# Altium footprint library MLACHT_Z.PCBLIB: 150 footprints (part 7 of 10)
Each footprint in its own frame and in the unit in brackets; x right, y up, seen from the top. Pads: shape width x height; smd on the part's side, far side on the other; paste and mask are expansions set on the pad; w line width, h text height; cw(c..) or ccw(c..) is an arc to the next point about the centre after c.
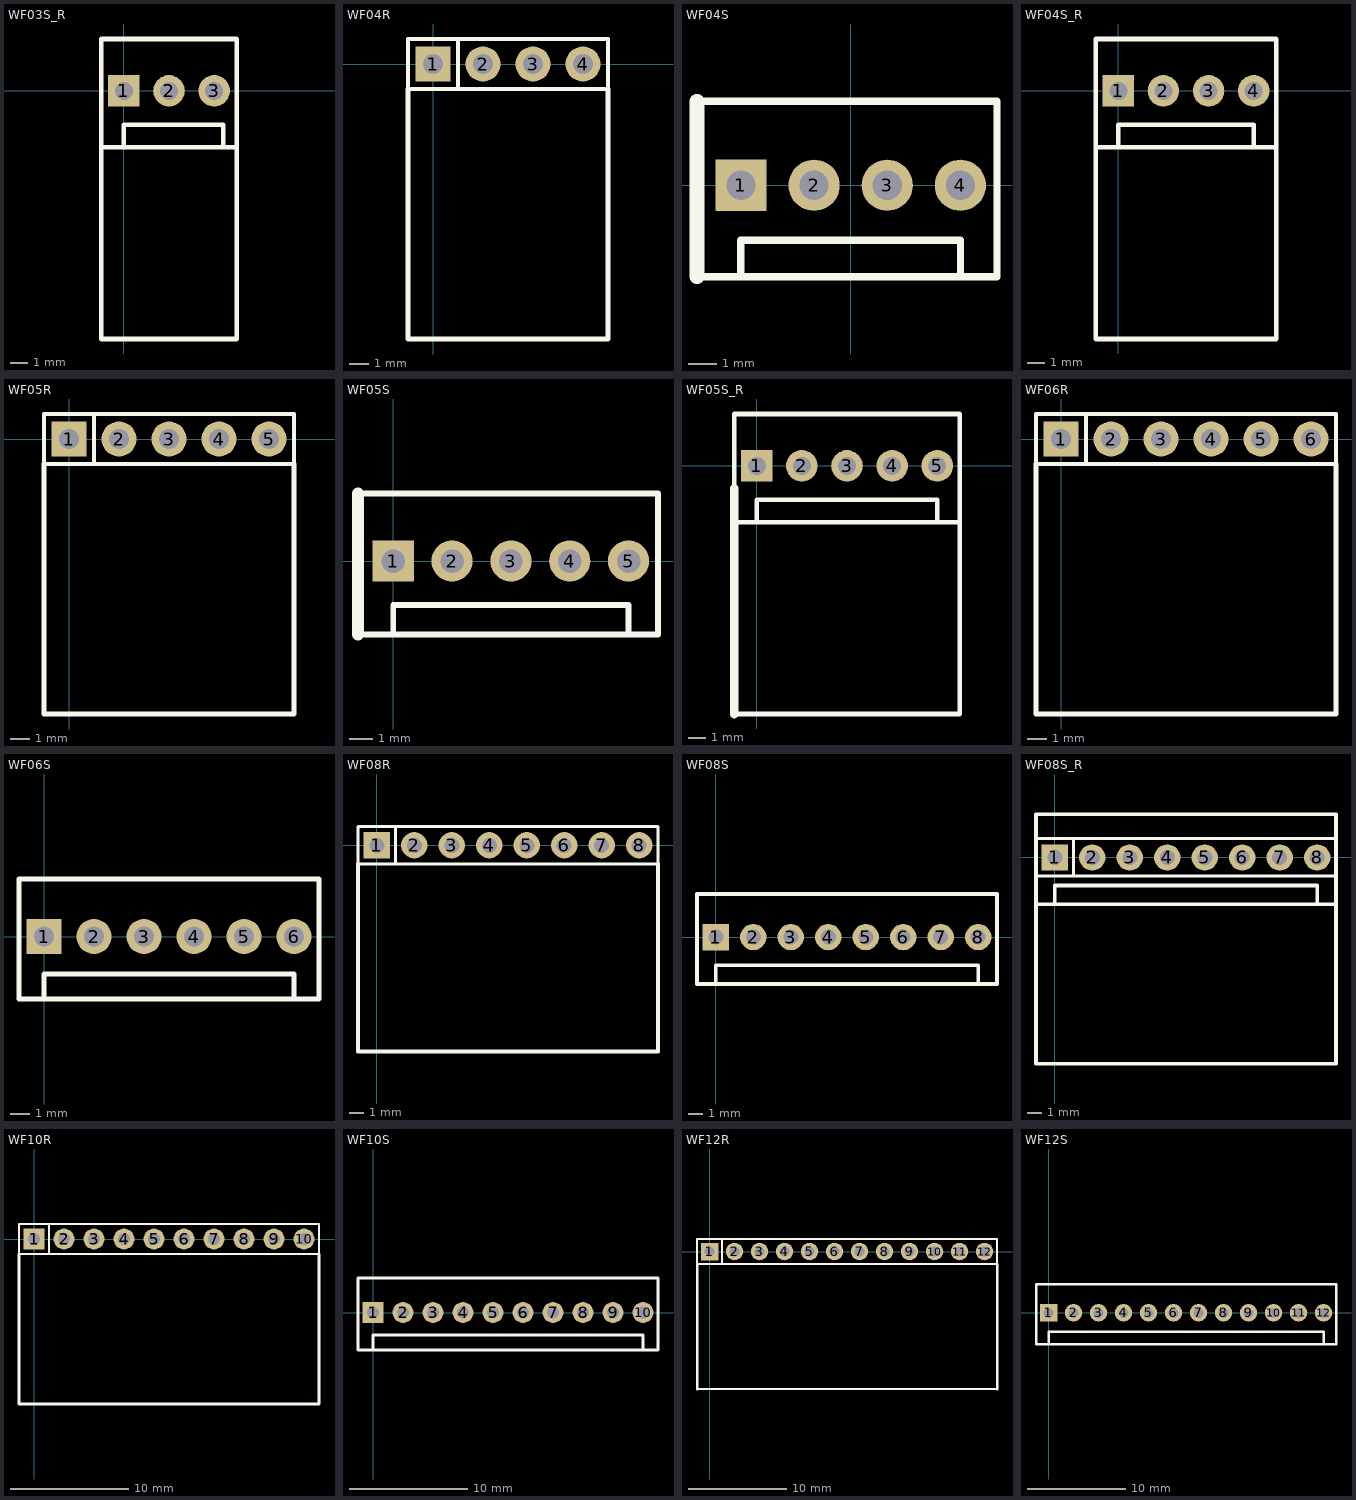
[diagram p6: the footprints below, top view; thin cyan lines are the x and y axes]

## WF03S_R [mil]
pads (3):
  rect 70x70 hole 40: 1(0,0)
  round 70 hole 40: 2(100,0) 3(200,0)
TopOverlay:
  lines w10: -50,-50 -50,-550 250,-550 250,-50 ; 0,-125 0,-75 220,-75 220,-125 ; -50,-125 250,-125 250,115 -50,115 -50,-125
3D body: height 433.07, standoff 0, extent 183.46,-15.75 214.96,15.75
3D body: height 433.07, standoff 0, extent 83.46,-15.75 114.96,15.75
3D body: height 433.07, standoff 0, extent -16.54,-15.75 14.96,15.75
3D body: height 452.76, standoff 0, extent 0,-125 220,-75
3D body: height 129.92, standoff 0, extent -50,-125 270,115

## WF04R [mil]
pads (4):
  rect 70x70 hole 40: 1(0,0)
  round 70 hole 40: 2(100,0) 3(200,0) 4(300,0)
TopOverlay:
  lines w8: 50,-50 50,50 ; -50,-50 350,-50 350,50 -50,50 -50,-50
  lines w10: -50,-50 -50,-550 350,-550 350,-50
3D body: height 100.39, standoff 72.83, extent 188.19,-492.13 211.81,11.81
3D body: height 100.39, standoff -118.11, extent 188.19,-11.81 211.81,11.81
3D body: height 100.39, standoff 72.83, extent 88.19,-492.13 111.81,11.81
3D body: height 100.39, standoff -118.11, extent 88.19,-11.81 111.81,11.81
3D body: height 100.39, standoff -118.11, extent -11.81,-11.81 11.81,11.81
3D body: height 100.39, standoff 72.83, extent -11.81,-492.13 11.81,11.81
3D body: height 228.35, standoff 0, extent -50,-188.98 350,-57.09
3D body: height 39.37, standoff 0, extent 0,-503.94 300,-57.09
3D body: height 100.39, standoff -118.11, extent 288.19,-11.81 311.81,11.81
3D body: height 100.39, standoff 72.83, extent 288.19,-492.13 311.81,11.81

## WF04S [mil]
pads (4):
  rect 70x70 hole 40: 1(-150,0)
  round 70 hole 40: 2(-50,0) 3(50,0) 4(150,0)
TopOverlay:
  lines w10: -210,-125 200,-125 200,115 -210,115 ; -150,-125 -150,-75 150,-75 150,-125
  lines w20: -210,-125 -210,115
3D body: height 433.07, standoff 0, extent 33.46,-15.75 64.96,15.75
3D body: height 433.07, standoff 0, extent -66.54,-15.75 -35.04,15.75
3D body: height 433.07, standoff 0, extent -166.54,-15.75 -135.04,15.75
3D body: height 452.76, standoff 0, extent -150,-125 150,-75
3D body: height 129.92, standoff 0, extent -200,-125 200,115
3D body: height 433.07, standoff 0, extent 133.46,-15.75 164.96,15.75

## WF04S_R [mil]
pads (4):
  rect 70x70 hole 40: 1(0,0)
  round 70 hole 40: 2(100,0) 3(200,0) 4(300,0)
TopOverlay:
  lines w10: -50,-50 -50,-550 350,-550 350,-50 ; 0,-125 0,-75 300,-75 300,-125 ; -50,-125 350,-125 350,115 -50,115 -50,-125
3D body: height 433.07, standoff 0, extent 183.46,-15.75 214.96,15.75
3D body: height 433.07, standoff 0, extent 83.46,-15.75 114.96,15.75
3D body: height 433.07, standoff 0, extent -16.54,-15.75 14.96,15.75
3D body: height 452.76, standoff 0, extent 0,-125 300,-75
3D body: height 129.92, standoff 0, extent -50,-125 350,115
3D body: height 433.07, standoff 0, extent 283.46,-15.75 314.96,15.75

## WF05R [mil]
pads (5):
  rect 70x70 hole 40: 1(0,0)
  round 70 hole 40: 2(100,0) 3(200,0) 4(300,0) 5(400,0)
TopOverlay:
  lines w8: 50,-50 50,50 ; -50,-50 450,-50 450,50 -50,50 -50,-50
  lines w10: -50,-50 -50,-550 450,-550 450,-50
3D body: height 100.39, standoff 72.83, extent 188.19,-492.13 211.81,11.81
3D body: height 100.39, standoff -118.11, extent 188.19,-11.81 211.81,11.81
3D body: height 100.39, standoff 72.83, extent 88.19,-492.13 111.81,11.81
3D body: height 100.39, standoff -118.11, extent 88.19,-11.81 111.81,11.81
3D body: height 100.39, standoff -118.11, extent -11.81,-11.81 11.81,11.81
3D body: height 100.39, standoff 72.83, extent -11.81,-492.13 11.81,11.81
3D body: height 228.35, standoff 0, extent -50,-188.98 450,-57.09
3D body: height 39.37, standoff 0, extent 0,-503.94 400,-57.09
3D body: height 100.39, standoff -118.11, extent 288.19,-11.81 311.81,11.81
3D body: height 100.39, standoff 72.83, extent 288.19,-492.13 311.81,11.81
3D body: height 100.39, standoff 72.83, extent 388.19,-492.13 411.81,11.81
3D body: height 100.39, standoff -118.11, extent 388.19,-11.81 411.81,11.81

## WF05S [mil]
pads (5):
  rect 70x70 hole 40: 1(0,0)
  round 70 hole 40: 2(100,0) 3(200,0) 4(300,0) 5(400,0)
TopOverlay:
  lines w10: -60,-125 450,-125 450,115 -60,115 ; 0,-125 0,-75 400,-75 400,-125
  lines w20: -60,-125 -60,115
3D body: height 433.07, standoff 0, extent -16.54,-15.75 14.96,15.75
3D body: height 433.07, standoff 0, extent 83.46,-15.75 114.96,15.75
3D body: height 433.07, standoff 0, extent 183.46,-15.75 214.96,15.75
3D body: height 433.07, standoff 0, extent 283.46,-15.75 314.96,15.75
3D body: height 433.07, standoff 0, extent 383.46,-15.75 414.96,15.75
3D body: height 452.76, standoff 0, extent 0,-125 400,-75
3D body: height 129.92, standoff 0, extent -50,-125 450,115

## WF05S_R [mil]
pads (5):
  rect 70x70 hole 40: 1(0,0)
  round 70 hole 40: 2(100,0) 3(200,0) 4(300,0) 5(400,0)
TopOverlay:
  lines w10: -50,-550 450,-550 450,-50 ; 0,-125 0,-75 400,-75 400,-125 ; -50,-125 -50,115 450,115 450,-125 -50,-125
  lines w19.68: -50,-550 -50,-50
3D body: height 433.07, standoff 0, extent -16.54,-15.75 14.96,15.75
3D body: height 433.07, standoff 0, extent 83.46,-15.75 114.96,15.75
3D body: height 433.07, standoff 0, extent 183.46,-15.75 214.96,15.75
3D body: height 433.07, standoff 0, extent 283.46,-15.75 314.96,15.75
3D body: height 433.07, standoff 0, extent 383.46,-15.75 414.96,15.75
3D body: height 452.76, standoff 0, extent 0,-125 400,-75
3D body: height 129.92, standoff 0, extent -50,-125 450,115

## WF06R [mil]
pads (6):
  rect 70x70 hole 40: 1(0,0)
  round 70 hole 40: 2(100,0) 3(200,0) 4(300,0) 5(400,0) 6(500,0)
TopOverlay:
  lines w8: 50,-50 50,50 ; -50,-50 -50,50 550,50 550,-50 -50,-50
  lines w10: -50,-50 -50,-550 550,-550 550,-50
3D body: height 100.39, standoff -118.11, extent 488.19,-11.81 511.81,11.81
3D body: height 100.39, standoff 72.83, extent 488.19,-492.13 511.81,11.81
3D body: height 100.39, standoff 72.83, extent 188.19,-492.13 211.81,11.81
3D body: height 100.39, standoff -118.11, extent 188.19,-11.81 211.81,11.81
3D body: height 100.39, standoff 72.83, extent 88.19,-492.13 111.81,11.81
3D body: height 100.39, standoff -118.11, extent 88.19,-11.81 111.81,11.81
3D body: height 100.39, standoff -118.11, extent -11.81,-11.81 11.81,11.81
3D body: height 100.39, standoff 72.83, extent -11.81,-492.13 11.81,11.81
3D body: height 228.35, standoff 0, extent -50,-188.98 550,-57.09
3D body: height 39.37, standoff 0, extent 0,-503.94 500,-57.09
3D body: height 100.39, standoff -118.11, extent 288.19,-11.81 311.81,11.81
3D body: height 100.39, standoff 72.83, extent 288.19,-492.13 311.81,11.81
3D body: height 100.39, standoff 72.83, extent 388.19,-492.13 411.81,11.81
3D body: height 100.39, standoff -118.11, extent 388.19,-11.81 411.81,11.81

## WF06S [mil]
pads (6):
  rect 70x70 hole 40: 1(0,0)
  round 70 hole 40: 2(100,0) 3(200,0) 4(300,0) 5(400,0) 6(500,0)
TopOverlay:
  lines w10: 0,-125 0,-75 500,-75 500,-125 ; -50,-125 -50,115 550,115 550,-125 -50,-125
3D body: height 433.07, standoff 0, extent 483.46,-15.75 514.96,15.75
3D body: height 433.07, standoff 0, extent 383.46,-15.75 414.96,15.75
3D body: height 433.07, standoff 0, extent 283.46,-15.75 314.96,15.75
3D body: height 433.07, standoff 0, extent 183.46,-15.75 214.96,15.75
3D body: height 433.07, standoff 0, extent 83.46,-15.75 114.96,15.75
3D body: height 433.07, standoff 0, extent -16.54,-15.75 14.96,15.75
3D body: height 129.92, standoff 0, extent -50,-125 551.18,115
3D body: height 452.76, standoff 0, extent 0,-125 500,-75

## WF08R [mil]
pads (8):
  rect 70x70 hole 40: 1(0,0)
  round 70 hole 40: 2(100,0) 3(200,0) 4(300,0) 5(400,0) 6(500,0) 7(600,0) 8(700,0)
TopOverlay:
  lines w8: 50,-50 50,50 ; -50,-50 750,-50 750,50 -50,50 -50,-50
  lines w10: -50,-50 -50,-550 750,-550 750,-50
3D body: height 100.39, standoff 72.83, extent 688.19,-492.13 711.81,11.81
3D body: height 100.39, standoff -118.11, extent 688.19,-11.81 711.81,11.81
3D body: height 100.39, standoff 72.83, extent 588.19,-492.13 611.81,11.81
3D body: height 100.39, standoff -118.11, extent 588.19,-11.81 611.81,11.81
3D body: height 100.39, standoff -118.11, extent 488.19,-11.81 511.81,11.81
3D body: height 100.39, standoff 72.83, extent 488.19,-492.13 511.81,11.81
3D body: height 100.39, standoff 72.83, extent 188.19,-492.13 211.81,11.81
3D body: height 100.39, standoff -118.11, extent 188.19,-11.81 211.81,11.81
3D body: height 100.39, standoff 72.83, extent 88.19,-492.13 111.81,11.81
3D body: height 100.39, standoff -118.11, extent 88.19,-11.81 111.81,11.81
3D body: height 100.39, standoff -118.11, extent -11.81,-11.81 11.81,11.81
3D body: height 100.39, standoff 72.83, extent -11.81,-492.13 11.81,11.81
3D body: height 228.35, standoff 0, extent -50,-188.98 750,-57.09
3D body: height 39.37, standoff 0, extent 0,-503.94 700,-57.09
3D body: height 100.39, standoff -118.11, extent 288.19,-11.81 311.81,11.81
3D body: height 100.39, standoff 72.83, extent 288.19,-492.13 311.81,11.81
3D body: height 100.39, standoff 72.83, extent 388.19,-492.13 411.81,11.81
3D body: height 100.39, standoff -118.11, extent 388.19,-11.81 411.81,11.81

## WF08S [mil]
pads (8):
  rect 70x70 hole 40: 1(0,0)
  round 70 hole 40: 2(100,0) 3(200,0) 4(300,0) 5(400,0) 6(500,0) 7(600,0) 8(700,0)
TopOverlay:
  lines w10: 0,-125 0,-75 700,-75 700,-125 ; -50,-125 750,-125 750,115 -50,115 -50,-125
3D body: height 129.92, standoff 0, extent -50,-125 750,115
3D body: height 433.07, standoff -118.11, extent -16.54,-15.75 14.96,15.75
3D body: height 452.76, standoff 0, extent 0,-125 700,-75
3D body: height 433.07, standoff -118.11, extent 83.46,-15.75 114.96,15.75
3D body: height 433.07, standoff -118.11, extent 283.46,-15.75 314.96,15.75
3D body: height 433.07, standoff -118.11, extent 183.46,-15.75 214.96,15.75
3D body: height 433.07, standoff -118.11, extent 483.46,-15.75 514.96,15.75
3D body: height 433.07, standoff -118.11, extent 383.46,-15.75 414.96,15.75
3D body: height 433.07, standoff -118.11, extent 683.46,-15.75 714.96,15.75
3D body: height 433.07, standoff -118.11, extent 583.46,-15.75 614.96,15.75

## WF08S_R [mil]
pads (8):
  rect 70x70 hole 40: 1(0,0)
  round 70 hole 40: 2(100,0) 3(200,0) 4(300,0) 5(400,0) 6(500,0) 7(600,0) 8(700,0)
TopOverlay:
  lines w8: 50,-50 50,50 ; -50,-50 -50,50 750,50 750,-50 -50,-50
  lines w10: -50,-50 -50,-550 750,-550 750,-50 ; 0,-125 0,-75 700,-75 700,-125 ; -50,-125 -50,115 750,115 750,-125 -50,-125
3D body: height 433.07, standoff -118.11, extent 583.46,-15.75 614.96,15.75
3D body: height 433.07, standoff -118.11, extent 683.46,-15.75 714.96,15.75
3D body: height 433.07, standoff -118.11, extent 383.46,-15.75 414.96,15.75
3D body: height 433.07, standoff -118.11, extent 483.46,-15.75 514.96,15.75
3D body: height 433.07, standoff -118.11, extent 183.46,-15.75 214.96,15.75
3D body: height 433.07, standoff -118.11, extent 283.46,-15.75 314.96,15.75
3D body: height 433.07, standoff -118.11, extent 83.46,-15.75 114.96,15.75
3D body: height 452.76, standoff 0, extent 0,-125 700,-75
3D body: height 433.07, standoff -118.11, extent -16.54,-15.75 14.96,15.75
3D body: height 129.92, standoff 0, extent -50,-125 750,115
3D body: height 100.39, standoff 72.83, extent 688.19,-492.13 711.81,11.81
3D body: height 100.39, standoff -118.11, extent 688.19,-11.81 711.81,11.81
3D body: height 100.39, standoff 72.83, extent 588.19,-492.13 611.81,11.81
3D body: height 100.39, standoff -118.11, extent 588.19,-11.81 611.81,11.81
3D body: height 100.39, standoff -118.11, extent 488.19,-11.81 511.81,11.81
3D body: height 100.39, standoff 72.83, extent 488.19,-492.13 511.81,11.81
3D body: height 100.39, standoff 72.83, extent 188.19,-492.13 211.81,11.81
3D body: height 100.39, standoff -118.11, extent 188.19,-11.81 211.81,11.81
3D body: height 100.39, standoff 72.83, extent 88.19,-492.13 111.81,11.81
3D body: height 100.39, standoff -118.11, extent 88.19,-11.81 111.81,11.81
3D body: height 100.39, standoff -118.11, extent -11.81,-11.81 11.81,11.81
3D body: height 100.39, standoff 72.83, extent -11.81,-492.13 11.81,11.81
3D body: height 228.35, standoff 0, extent -50,-188.98 750,-57.09
3D body: height 39.37, standoff 0, extent 0,-503.94 700,-57.09
3D body: height 100.39, standoff -118.11, extent 288.19,-11.81 311.81,11.81
3D body: height 100.39, standoff 72.83, extent 288.19,-492.13 311.81,11.81
3D body: height 100.39, standoff 72.83, extent 388.19,-492.13 411.81,11.81
3D body: height 100.39, standoff -118.11, extent 388.19,-11.81 411.81,11.81

## WF10R [mil]
pads (10):
  rect 70x70 hole 40: 1(0,0)
  round 70 hole 40: 2(100,0) 3(200,0) 4(300,0) 5(400,0) 6(500,0) 7(600,0) 8(700,0) 9(800,0) 10(900,0)
TopOverlay:
  lines w8: 50,-50 50,50 ; -50,-50 950,-50 950,50 -50,50 -50,-50
  lines w10: -50,-50 -50,-550 950,-550 950,-50
3D body: height 39.37, standoff 0, extent 0,-503.94 900,-57.09
3D body: height 228.35, standoff 0, extent -50,-188.98 950,-57.09
3D body: height 100.39, standoff 72.83, extent -11.81,-492.13 11.81,11.81
3D body: height 100.39, standoff -118.11, extent -11.81,-11.81 11.81,11.81
3D body: height 100.39, standoff -118.11, extent 88.19,-11.81 111.81,11.81
3D body: height 100.39, standoff 72.83, extent 88.19,-492.13 111.81,11.81
3D body: height 100.39, standoff -118.11, extent 188.19,-11.81 211.81,11.81
3D body: height 100.39, standoff 72.83, extent 188.19,-492.13 211.81,11.81
3D body: height 100.39, standoff -118.11, extent 288.19,-11.81 311.81,11.81
3D body: height 100.39, standoff 72.83, extent 288.19,-492.13 311.81,11.81
3D body: height 100.39, standoff -118.11, extent 388.19,-11.81 411.81,11.81
3D body: height 100.39, standoff 72.83, extent 388.19,-492.13 411.81,11.81
3D body: height 100.39, standoff -118.11, extent 488.19,-11.81 511.81,11.81
3D body: height 100.39, standoff 72.83, extent 488.19,-492.13 511.81,11.81
3D body: height 100.39, standoff -118.11, extent 588.19,-11.81 611.81,11.81
3D body: height 100.39, standoff 72.83, extent 588.19,-492.13 611.81,11.81
3D body: height 100.39, standoff -118.11, extent 688.19,-11.81 711.81,11.81
3D body: height 100.39, standoff 72.83, extent 688.19,-492.13 711.81,11.81
3D body: height 100.39, standoff -118.11, extent 788.19,-11.81 811.81,11.81
3D body: height 100.39, standoff 72.83, extent 788.19,-492.13 811.81,11.81
3D body: height 100.39, standoff -118.11, extent 888.19,-11.81 911.81,11.81
3D body: height 100.39, standoff 72.83, extent 888.19,-492.13 911.81,11.81

## WF10S [mil]
pads (10):
  rect 70x70 hole 40: 1(0,0)
  round 70 hole 40: 2(100,0) 3(200,0) 4(300,0) 5(400,0) 6(500,0) 7(600,0) 8(700,0) 9(800,0) 10(900,0)
TopOverlay:
  lines w10: 0,-125 0,-75 900,-75 900,-125 ; -50,-125 950,-125 950,115 -50,115 -50,-125
3D body: height 433.07, standoff -118.11, extent 883.46,-15.75 914.96,15.75
3D body: height 433.07, standoff -118.11, extent 783.46,-15.75 814.96,15.75
3D body: height 433.07, standoff -118.11, extent 583.46,-15.75 614.96,15.75
3D body: height 433.07, standoff -118.11, extent 683.46,-15.75 714.96,15.75
3D body: height 433.07, standoff -118.11, extent 383.46,-15.75 414.96,15.75
3D body: height 433.07, standoff -118.11, extent 483.46,-15.75 514.96,15.75
3D body: height 433.07, standoff -118.11, extent 183.46,-15.75 214.96,15.75
3D body: height 433.07, standoff -118.11, extent 283.46,-15.75 314.96,15.75
3D body: height 433.07, standoff -118.11, extent 83.46,-15.75 114.96,15.75
3D body: height 452.76, standoff 0, extent 0,-125 899.61,-75
3D body: height 433.07, standoff -118.11, extent -16.54,-15.75 14.96,15.75
3D body: height 129.92, standoff 0, extent -50,-125 948.82,115

## WF12R [mil]
pads (12):
  rect 70x70 hole 40: 1(0,0)
  round 70 hole 40: 2(100,0) 3(200,0) 4(300,0) 5(400,0) 6(500,0) 7(600,0) 8(700,0) 9(800,0) 10(900,0) 11(1000,0) 12(1100,0)
TopOverlay:
  lines w6.55: -50,-550 1150,-550
  lines w8: 50,-50 50,50 ; -50,-50 1150,-50 1150,50 -50,50 -50,-50
  lines w10: -50,-550 -50,-50 ; 1150,-550 1150,-50

## WF12S [mil]
pads (12):
  rect 70x70 hole 40: 1(0,0)
  round 70 hole 40: 2(100,0) 3(200,0) 4(300,0) 5(400,0) 6(500,0) 7(600,0) 8(700,0) 9(800,0) 10(900,0) 11(1000,0) 12(1100,0)
TopOverlay:
  lines w10: 0,-125 0,-75 1100,-75 1100,-125 ; -50,-125 1150,-125 1150,115 -50,115 -50,-125